# EAGLE library part ACAS0612 (library sjg-resistor)
resistor array network with 4 resistors in a 1.5x3.2mm package
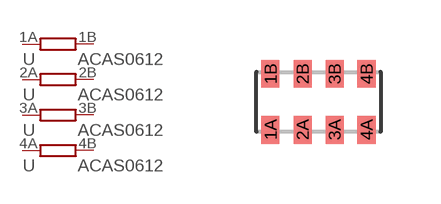
[diagram p0: symbol with the pads of ACAS0612; footprint ACAS0612]

Designator prefix -; gates A=R1PV B=R1PV C=R1PV D=R1PV

## ACAS0612  [ACAS0612]
1A  A:1  pas
1B  A:2  pas
2A  B:1  pas
2B  B:2  pas
3A  C:1  pas
3B  C:2  pas
4A  D:1  pas
4B  D:2  pas

## Footprint ACAS0612 (pad centres in mm)
smd 0.45 x 0.7: 1A -1.2,-0.7; 1B -1.2,0.7; 2A -0.4,-0.7; 2B -0.4,0.7; 3A 0.4,-0.7; 3B 0.4,0.7; 4A 1.2,-0.7; 4B 1.2,0.7